# Altium schematic symbol library HC11_lib.SchLib: 34 symbols (part 1 of 2)
Pins are listed as number, name and electrical type; pins without a type are passive.

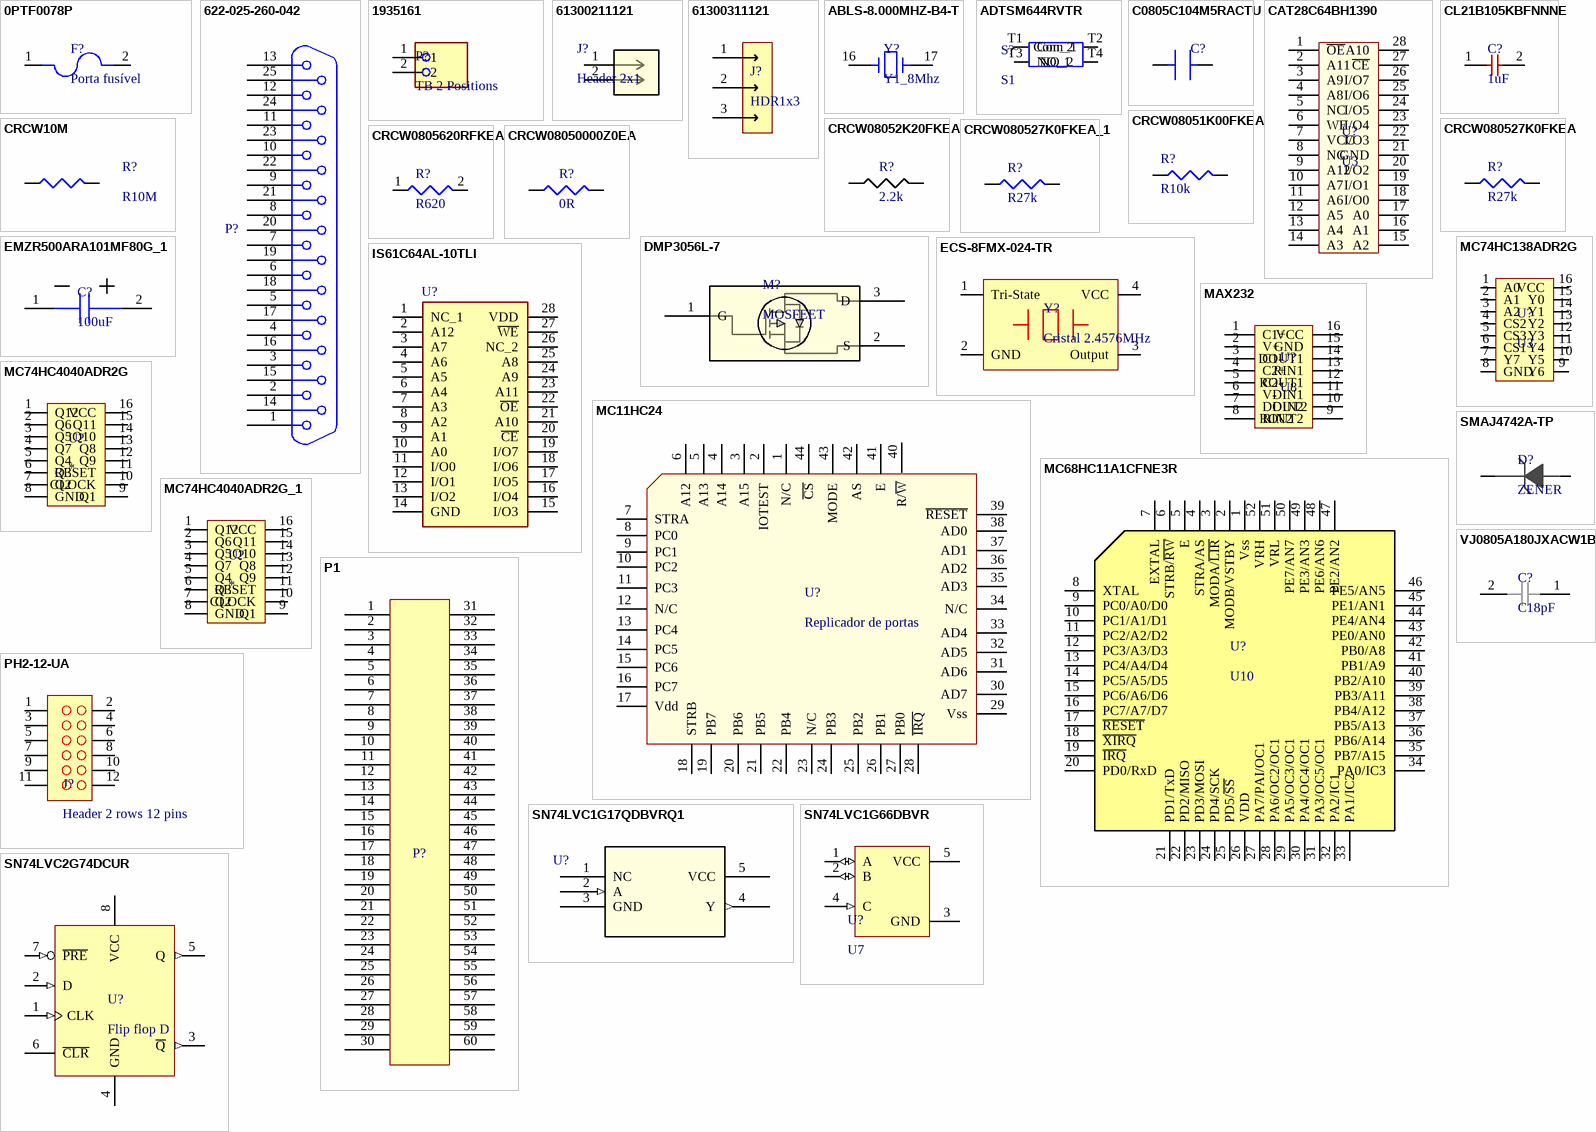
[diagram p0: symbols 0PTF0078P to VJ0805A180JXACW1BC]

## 0PTF0078P
designator F?, comment Porta fusível
Fuses/Accessories; Manufacturer: Littelfuse; Manufacturer Part Number: 0PTF0078P; Supplier: Arrow Electronics; Supplier Part Number: 0PTF0078P; RoHS: Yes; Category: Fuse Holders; Stock: 1750; Pricing: 1=0,4521, 10=0,4393, 25=0,3756, 100=0,3176, 250=0,2898, 500=0,247, 1000=0,2297, 2000=0,2037 (USD); ComponentLink1URL: https://datasheet.ciiva.com:443/pdfs/VipMasterIC/IC/LFSI/LFSI-S-A0006637341/LFSI-S-A0006637341-1.pdf?src-supplier=IHS+Markit; ComponentLink1Description: https://datasheet.ciiva.com:443/pdfs/VipMasterIC/IC/LFSI/LFSI-S-A0006637341/LFSI-S-A0006637341-1.pdf?src-supplier=IHS+Markit; ComponentLink2URL: https://datasheet.ciiva.com/18456/ptf075-77-78-18456970.pdf?src-supplier=Digikey; ComponentLink2Description: https://datasheet.ciiva.com/18456/ptf075-77-78-18456970.pdf?src-supplier=Digikey
footprint porta fusível
pins: 1, 2

## 622-025-260-042
designator P?, comment D-Sub 25  (value not drawn)
Connector, d-Shell, pcb Mount, plug, 25 Contacts, skt, 0.109 Pitch, pc Tail Terminal, #4-40; Manufacturer: EDAC; Manufacturer Part Number: 622-025-260-042; Current Rating: 5A; Gender: Male; Connector Type: D-Sub,Receptacle; Number of Positions: 25; Supplier 1: Digikey; RoHS: Yes; Category: D-Sub Connectors; Stock 1: 203; Pricing 1: 1=3,31, 10=3,003, 25=2,8448, 50=2,7786, 100=2,6462, 250=2,31544, 450=2,24927, 950=1,91849, 2400=1,78618 (USD); Mount: Through Hole,Panel; Color: Black; Contact Plating: Gold; Contact Material: Bronze; Housing Color: Black; Housing Material: Polyester; Min Operating Temperature: -55°C; Max Operating Temperature: 105°C; Package Quantity: 25; Number of Rows: 2; Termination: Solder; Packaging: Tray; Features: Shielded; Series: 622; Contact Type: Signal; Length: 53mm; Width: 18.3mm; Height: 12.6mm; Lead Free: Lead Free; Flammability Rating: UL94 V-0; RoHS Compliant: Yes; ComponentLink1URL: https://datasheet.ciiva.com/660/24-621-622seriesnew-660597.pdf?src-supplier=Digikey; ComponentLink1Description: https://datasheet.ciiva.com/660/24-621-622seriesnew-660597.pdf?src-supplier=Digikey; ComponentLink2URL: https://datasheet.ciiva.com/36531/24-621-62220series20new-36531692.pdf?src-supplier=Onlinecomponents.com; ComponentLink2Description: https://datasheet.ciiva.com/36531/24-621-62220series20new-36531692.pdf?src-supplier=Onlinecomponents.com; ComponentLink3URL: https://datasheet.ciiva.com/5118/24-621-622seriesnew-5118957.pdf?src-supplier=Mouser; ComponentLink3Description: https://datasheet.ciiva.com/5118/24-621-622seriesnew-5118957.pdf?src-supplier=Mouser; Supplier Part Number 1: 151-1469-ND
pins: 1, 2, 3, 4, 5, 6, 7, 8, 9, 10, 11, 12, 13, 14, 15, 16, 17, 18, 19, 20, 21, 22, 23, 24, 25

## 1935161
designator P?, comment TB 2 Positions
Supplier 1: Arrow Electronics; Supplier Part Number 1: 1935161
footprint P?
pins: 1, 2

## 61300211121
designator J?, comment Header 2x1
No Description Available; Mfr_Name: Wurth Electronics; RefDes: RefDes; Type: Type
footprint 2pin
pins: 1, 2

## 61300311121
designator J?, comment HDR1x3
THT Vertical Pin Header WR-PHD, Pitch 2.54 mm, Single Row, 3 pins; Manufacturer: Wurth Electronics; Manufacturer Part Number: 61300311121; Number of Positions: 3; Gender: Male; Contact Resistance: 20mR; Current Rating: 3A; Voltage Rating: 250V; Pitch: 0.1inch; Supplier 1: Digikey; RoHS: Yes; Category: Connectors; Stock 1: 144979; Pricing 1: 1=0,13, 10=0,113, 25=0,094, 50=0,079, 100=0,071, 1000=0,066 (USD); Mount: Through Hole; Contact Plating: Gold; Contact Material: Copper; Color: Black; Min Operating Temperature: -40°C; Max Operating Temperature: 105°C; Number of Rows: 1; Packaging: Bulk; Termination: Solder; Number of Contacts: 3; Series: WR-PHD; Contact Type: Male Pin; Operating Supply Voltage: 250V; Orientation: 5495OrientationType; Height: 8.94mm; Contact Mating Length: 0.236inch; Lead Free: Lead Free; RoHS Compliant: Yes; Reach SVHC Compliant: Unknown; ComponentLink1URL: https://katalog.we-online.de/em/datasheet/6130xx11121.pdf?src-supplier=Digikey; ComponentLink1Description: https://katalog.we-online.de/em/datasheet/6130xx11121.pdf?src-supplier=Digikey; ComponentLink2URL: http://www.farnell.com/cad/1737268.pdf?src-supplier=Element14; ComponentLink2Description: http://www.farnell.com/cad/1737268.pdf?src-supplier=Element14; ComponentLink3URL: https://datasheet.octopart.com/61300311121-W%C3%BCrth-Elektronik-datasheet-21154836.pdf?src-supplier=Element14; ComponentLink3Description: https://datasheet.octopart.com/61300311121-W%C3%BCrth-Elektronik-datasheet-21154836.pdf?src-supplier=Element14; Supplier Part Number 1: 732-5316-ND
footprint HDR1x3
pins: 1, 2, 3

## ABLS-8.000MHZ-B4-T
designator Y?, comment Y1_8Mhz
Crystal, Hc49/u Smd, 8.000Mhz, 18Pf, 30Ppm@25C, 50Ppm-20+70C Rohs Compliant: Yes; Manufacturer: Abracon; Manufacturer Part Number: ABLS-8.000MHZ-B4-T; Supplier: Digikey; Supplier Part Number: 535-10212-1-ND; RoHS: Yes; Category: Crystals; Stock: 30879; Pricing: 1=0,25, 10=0,211, 50=0,19, 100=0,1817, 500=0,16382 (USD); ComponentLink1URL: https://datasheet.ciiva.com/3175/abls-3175446.pdf?src-supplier=Avnet; ComponentLink1Description: https://datasheet.ciiva.com/3175/abls-3175446.pdf?src-supplier=Avnet; ComponentLink2URL: https://datasheet.ciiva.com/854/abls-854117.pdf?src-supplier=Digikey; ComponentLink2Description: https://datasheet.ciiva.com/854/abls-854117.pdf?src-supplier=Digikey; ComponentLink3URL: https://datasheet.ciiva.com/854/abls-854118.pdf?src-supplier=Digikey; ComponentLink3Description: https://datasheet.ciiva.com/854/abls-854118.pdf?src-supplier=Digikey; ComponentLink4URL: https://datasheet.ciiva.com/854/abls-854119.pdf?src-supplier=Digikey; ComponentLink4Description: https://datasheet.ciiva.com/854/abls-854119.pdf?src-supplier=Digikey; ComponentLink5URL: https://datasheet.ciiva.com/4944/abls-44621-4944748.pdf?src-supplier=Mouser; ComponentLink5Description: https://datasheet.ciiva.com/4944/abls-44621-4944748.pdf?src-supplier=Mouser
footprint Y1_Oscilador 8Mhz
pins: 16, 17

## ADTSM644RVTR
designator S?, comment S1
Switch Tactile Spst-no 0.05A 12V; Manufacturer: APEM; Manufacturer Part Number: ADTSM644RVTR; Supplier: Digikey; Supplier Part Number: 679-ADTSM644RVTRCT-ND; RoHS: Yes; Category: Tactile Switches; Stock: 3362; Pricing: 1=0,59, 10=0,573, 25=0,5516, 100=0,4772, 250=0,4348, 700=0,40299, 1400=0,36057, 3500=0,34148, 4900=0,31603, 17500=0,29482 (USD); ComponentLink1URL: https://datasheet.ciiva.com/12436/adts6-adtsm-ktsc6-263747-12436687.pdf?src-supplier=Mouser; ComponentLink1Description: https://datasheet.ciiva.com/12436/adts6-adtsm-ktsc6-263747-12436687.pdf?src-supplier=Mouser
footprint S1_ChaveDPDT
pins: T1 Com_1, T2 Com_2, T3 NO_1, T4 NO_2

## C0805C104M5RACTU
designator C?, comment 0.1uF  (value not drawn)
Multilayer Ceramic Capacitor, 0.1 uF, 50 V, ï¿½ 20%, X7R, 0805 [2012 Metric]; Manufacturer: KEMET; Manufacturer Part Number: C0805C104M5RACTU; Material: 4241ConductorMaterial; Capacitance: 100nF; Voltage Rating (DC): 50V; Dissipation Factor: 2.5%; Temperature Coefficient: 30ppm/°C; Supplier 1: Mouser; RoHS: Yes; Category: Ceramic Capacitors; Stock 1: 967469; Pricing 1: 1=0,1, 10=0,028, 50=0,028, 100=0,016, 1000=0,011, 10000=0,009 (USD); Mount: Surface Mount,PCB; Case/Package: 0805; Number of Pins: 2; Dielectric Material: Ceramic; Case Code (Imperial): 0805; Case Code (Metric): 2012; Weight: 0.000194oz; Min Operating Temperature: -55°C; Max Operating Temperature: 125°C; Tolerance: 20%; Packaging: Tape and Reel; Dielectric: X7R; Series: C; Termination: SMD/SMT; Package Quantity: 1; Voltage Rating: 50V; Voltage: 50V; Construction: Flat; Length: 2mm; Width: 0.049inch; Height: 0.9mm; Depth: 1.25mm; Thickness: 0.035inch; Radiation Hardening: No; Reach SVHC Compliant: No; RoHS Compliant: Yes; Lead Free: 5697LeadFree; ComponentLink1URL: http://www.mouser.com/ds/2/212/KEM_C1002_X7R_SMD-1102033.pdf?src-supplier=Mouser; ComponentLink1Description: http://www.mouser.com/ds/2/212/KEM_C1002_X7R_SMD-1102033.pdf?src-supplier=Mouser; ComponentLink2URL: http://uk.rs-online.com/webdocs/1515/0900766b81515223.pdf?src-supplier=Rs; ComponentLink2Description: http://uk.rs-online.com/webdocs/1515/0900766b81515223.pdf?src-supplier=Rs; ComponentLink3URL: http://uk.rs-online.com/webdocs/1528/0900766b81528e2f.pdf?src-supplier=Rs; ComponentLink3Description: http://uk.rs-online.com/webdocs/1528/0900766b81528e2f.pdf?src-supplier=Rs; ComponentLink4URL: http://www.farnell.com/datasheets/2739857.pdf?src-supplier=Farnell; ComponentLink4Description: http://www.farnell.com/datasheets/2739857.pdf?src-supplier=Farnell; ComponentLink5URL: http://uk.rs-online.com/webdocs/13da/0900766b813daa06.pdf?src-supplier=Rs; ComponentLink5Description: http://uk.rs-online.com/webdocs/13da/0900766b813daa06.pdf?src-supplier=Rs; ComponentLink6URL: https://api.kemet.com/component-edge/download/datasheet/C0805C104M5RACTU.pdf?src-supplier=Digikey; ComponentLink6Description: https://api.kemet.com/component-edge/download/datasheet/C0805C104M5RACTU.pdf?src-supplier=Digikey; ComponentLink7URL: http://datasheet.octopart.com/C0805C104M5RAC-TU-Kemet-datasheet-5313890.pdf?src-supplier=Distrelec; ComponentLink7Description: http://datasheet.octopart.com/C0805C104M5RAC-TU-Kemet-datasheet-5313890.pdf?src-supplier=Distrelec; ComponentLink8URL: http://datasheet.octopart.com/C0805C104M5RAC-TU-Kemet-datasheet-5313890.pdf?src-supplier=Rs; ComponentLink8Description: http://datasheet.octopart.com/C0805C104M5RAC-TU-Kemet-datasheet-5313890.pdf?src-supplier=Rs; ComponentLink9URL: https://datasheet.octopart.com/C0805C104M5RACTU-Kemet-datasheet-12608295.pdf?src-supplier=Element14; ComponentLink9Description: https://datasheet.octopart.com/C0805C104M5RACTU-Kemet-datasheet-12608295.pdf?src-supplier=Element14; ComponentLink10URL: http://www.farnell.com/datasheets/2739857.pdf?src-supplier=Element14; ComponentLink10Description: http://www.farnell.com/datasheets/2739857.pdf?src-supplier=Element14; ComponentLink11URL: http://datasheet.octopart.com/C0805C104M5RAC-TU-Kemet-datasheet-5313890.pdf?src-supplier=Avnet; ComponentLink11Description: http://datasheet.octopart.com/C0805C104M5RAC-TU-Kemet-datasheet-5313890.pdf?src-supplier=Avnet; ComponentLink12URL: http://datasheet.octopart.com/C0805C104M5RAC-TU-Kemet-datasheet-5313890.pdf?src-supplier=Digikey; ComponentLink12Description: http://datasheet.octopart.com/C0805C104M5RAC-TU-Kemet-datasheet-5313890.pdf?src-supplier=Digikey; ComponentLink13URL: https://datasheet.octopart.com/C0805C104M5RACTU-Kemet-datasheet-11629161.pdf?src-supplier=Arrow+Electronics; ComponentLink13Description: https://datasheet.octopart.com/C0805C104M5RACTU-Kemet-datasheet-11629161.pdf?src-supplier=Arrow+Electronics; Supplier Part Number 1: 80-C0805C104M5R
footprint C0.1uF
pins: 1, 2

## CAT28C64BH1390
designator U?, comment U3
EEPROM Parallel 64K-bit 8K x 8 5V 28-Pin TSOP; Manufacturer: ON Semiconductor; Manufacturer Part Number: CAT28C64BH1390; Max Supply Voltage: 5.5V; Min Supply Voltage: 4.5V; Access Time: 90ns; Memory Size: 64Kb; Memory Type: Non-Volatile,EEPROM; Supplier 1: Avnet; RoHS: Yes; Stock 1: 468; Pricing 1: 92=4,0404, 100=3,9312, 190=3,822, 460=3,7128, 920=3,6036, 4600=3,4944, 9200=3,3852 (USD); Mount: Surface Mount; Case/Package: TSOP; Number of Pins: 28; Min Operating Temperature: 0°C; Max Operating Temperature: 70°C; Packaging: Tray; Operating Supply Voltage: 5V; Interface: Parallel; Series: -; RoHS Compliant: Yes; ComponentLink1URL: https://datasheet.ciiva.com/1928/cat28c64b-d-1928348.pdf?src-supplier=Digikey; ComponentLink1Description: https://datasheet.ciiva.com/1928/cat28c64b-d-1928348.pdf?src-supplier=Digikey; Supplier Part Number 1: CAT28C64BH1390
pins: 1 ~{OE}, 2 A11, 3 A9, 4 A8, 5 NC, 6 WE, 7 VCC, 8 NC, 9 A12, 10 A7, 11 A6, 12 A5, 13 A4, 14 A3, 15 A2, 16 A1, 17 A0, 18 I/O0, 19 I/O1, 20 I/O2, 21 GND, 22 I/O3, 23 I/O4, 24 I/O5, 25 I/O6, 26 I/O7, 27 ~{CE}, 28 A10

## CL21B105KBFNNNE
designator C?, comment 1uF
CAP CER 1UF 50V X7R 0805; Supplier 1: Digikey; Supplier Part Number 1: 1276-1029-1-ND
footprint Cap_1uF
pins: 1, 2

## CRCW10M
designator R?, comment R10M
Supplier 1: Mouser; Supplier Part Number 1: 71-CRCW0805-10M-E3
footprint R?
pins: 9, 9

## CRCW08051K00FKEA
designator R?, comment R10k
Fixed Resistor, Metal Glaze/thick Film, 0.125W, 1000ohm, 150V, 1% +/-Tol, 100ppm/Cel, Surface Mount, 0805; Manufacturer: Vishay Dale; Manufacturer Part Number: CRCW08051K00FKEA; Power: 125mW; Rated Temperature: 70°C; Value: 1kR; Temperature Coefficient: 100ppm/°C; Package Height: 0.45mm; Package Length: 2mm; Package Width: 1.25mm; Reference Standard: AEC-Q200; Supplier: Mouser; Supplier Part Number: 71-CRCW0805-1.0K-E3; RoHS: Yes; Category: Resistors; Stock: 628657; Pricing: 1=0,1, 10=0,022, 50=0,022, 100=0,014, 1000=0,012, 10000=0,007 (USD); Mounting Technology: Surface Mount; Pins: 2; Package Shape: Rectangular; Case/Package: 0805; Terminal Finish: Nickel; Min Operating Temperature: -55°C; Max Operating Temperature: 155°C; Tolerance: 1%; JESD-609 Code: e3; Resistor Type: FIXED RESISTOR; Construction: Chip; Package Style: SMTMeter; Packaging: Tape and Reel; Technology: METAL GLAZE/THICK FILM; Termination: Wraparound; Working Voltage: 150V; Reach SVHC Compliant: Yes; RoHS Compliant: Yes; ComponentLink1URL: https://datasheet.ciiva.com:443/pdfs/VipMasterIC/IC/VISH/VISH-S-A0007266705/VISH-S-A0007266705-1.pdf?src-supplier=IHS+Markit; ComponentLink1Description: https://datasheet.ciiva.com:443/pdfs/VipMasterIC/IC/VISH/VISH-S-A0007266705/VISH-S-A0007266705-1.pdf?src-supplier=IHS+Markit
footprint CRCW080510K0FKEA - duplicate1
pins: 1, 2

## CRCW08052K20FKEA
designator R?, comment 2.2k
SMD Chip Resistor, 2.2 kOhm, ï¿½ 1%, 125 mW, 0805 [2012 Metric], Thick Film, General Purpose; Manufacturer: Vishay; Manufacturer Part Number: CRCW08052K20FKEA; Value: 2.2kR; Temperature Coefficient: 100ppm/°C; Max Power Dissipation: 125mW; Voltage Rating: 150V; Supplier: Digikey; Supplier Part Number: 541-2.20KCCT-ND; RoHS: Yes; Category: Chip SMD Resistors; Stock: 33922; Pricing: 1=0,1, 10=0,038, 50=0,0248, 100=0,021, 500=0,01462, 1000=0,01273 (USD); Case/Package: 0805; Weight: 0.000194oz; Case Code (Imperial): 0805; Case Code (Metric): 2012; Contact Plating: Tin; Min Operating Temperature: -55°C; Max Operating Temperature: 155°C; Tolerance: 1%; Number of Terminations: 2; Series: CRCW; Packaging: Tape and Reel; Resistor Type: Thick Film; Power Rating: 125mW; Package Quantity: 10; Termination: SMD/SMT; Voltage Rating (DC): 150V; Features: Automotive AEC-Q200; Technology: THICK FILM; Resistance Tolerance: 1%; Construction: Rectangular; Length: 2mm; Width: 0.049inch; Height: 0.45mm; Depth: 1.25mm; Radiation Hardening: No; Lead Free: Lead Free; RoHS Compliant: Yes; Reach SVHC Compliant: Unknown; Military Standard: Not; ComponentLink1URL: https://datasheet.ciiva.com/11808/0900766b80d98b26-11808384.pdf?src-supplier=Rs; ComponentLink1Description: https://datasheet.ciiva.com/11808/0900766b80d98b26-11808384.pdf?src-supplier=Rs; ComponentLink2URL: https://datasheet.ciiva.com/2525/dcrcwe3-2525869.pdf?src-supplier=Digikey; ComponentLink2Description: https://datasheet.ciiva.com/2525/dcrcwe3-2525869.pdf?src-supplier=Digikey; ComponentLink3URL: https://datasheet.ciiva.com/2525/dcrcwe3-2525870.pdf?src-supplier=Digikey; ComponentLink3Description: https://datasheet.ciiva.com/2525/dcrcwe3-2525870.pdf?src-supplier=Digikey; ComponentLink4URL: https://datasheet.ciiva.com/2525/dcrcwe3-2525871.pdf?src-supplier=Digikey; ComponentLink4Description: https://datasheet.ciiva.com/2525/dcrcwe3-2525871.pdf?src-supplier=Digikey; ComponentLink5URL: https://datasheet.ciiva.com/3258/dcrcwe3-3258430.pdf?src-supplier=Avnet; ComponentLink5Description: https://datasheet.ciiva.com/3258/dcrcwe3-3258430.pdf?src-supplier=Avnet; ComponentLink6URL: https://datasheet.ciiva.com/3258/dcrcwe3-3258431.pdf?src-supplier=Avnet; ComponentLink6Description: https://datasheet.ciiva.com/3258/dcrcwe3-3258431.pdf?src-supplier=Avnet; ComponentLink7URL: https://datasheet.ciiva.com/7777/1697337-7777385.pdf?src-supplier=Element14; ComponentLink7Description: https://datasheet.ciiva.com/7777/1697337-7777385.pdf?src-supplier=Element14; ComponentLink8URL: https://datasheet.ciiva.com/7777/1720486-7777611.pdf?src-supplier=Element14; ComponentLink8Description: https://datasheet.ciiva.com/7777/1720486-7777611.pdf?src-supplier=Element14; ComponentLink9URL: https://datasheet.ciiva.com/5546/dcrcwe3-109170-5546726.pdf?src-supplier=Mouser; ComponentLink9Description: https://datasheet.ciiva.com/5546/dcrcwe3-109170-5546726.pdf?src-supplier=Mouser; ComponentLink10URL: https://datasheet.ciiva.com/16770/70201119-16770763.pdf?src-supplier=Allied+Electronics; ComponentLink10Description: https://datasheet.ciiva.com/16770/70201119-16770763.pdf?src-supplier=Allied+Electronics; ComponentLink11URL: https://datasheet.ciiva.com/16201/dcrcwe3-16201450.pdf?src-supplier=Future+Electronics; ComponentLink11Description: https://datasheet.ciiva.com/16201/dcrcwe3-16201450.pdf?src-supplier=Future+Electronics; Supplier 1: Mouser; Supplier Part Number 1: 71-CRCW08052K20FKEAC
footprint R2.2k
pins: 1, 2

## CRCW080527K0FKEA
designator R?, comment R27k
Res Thick Film 0805 27K Ohm 1% 1/8W ±100ppm/°C Molded SMD SMD Paper T/R; Manufacturer: Vishay; Manufacturer Part Number: CRCW080527K0FKEA; Power Rating: 125mW; Resistance: 27kR; Voltage Rating: 150V; Supplier 1: Digikey; RoHS: Yes; Category: Resistores; Stock 1: 17664; Pricing 1: 1=0,1, 10=0,038, 50=0,0248, 100=0,021, 500=0,01462, 1000=0,01273 (USD); Case/Package: 0805; Number of Pins: 2; Weight: 0.000194oz; Case Code (Metric): 2012; Case Code (Imperial): 0805; Contact Plating: Tin; Size Code: 0805; Min Operating Temperature: -55°C; Max Operating Temperature: 155°C; Tolerance: 1%; Packaging: Tape and Reel; Package Quantity: 10; Resistor Type: Thick Film; Number of Terminations: 2; Termination: SMD/SMT; Temperature Coefficient: 100ppm/°C; Max Power Dissipation: 125mW; Voltage Rating (DC): 150V; Features: Automotive AEC-Q200; Series: CRCW; Resistance Tolerance: 1%; Construction: Rectangular; Technology: THICK FILM; Length: 2mm; Width: 0.049inch; Height: 0.45mm; Depth: 1.25mm; Ratings: AEC-Q200; Radiation Hardening: No; RoHS Compliant: Yes; Lead Free: Lead Free; Reach SVHC Compliant: Unknown; Military Standard: Not; ComponentLink1URL: https://datasheet.ciiva.com/11809/0900766b80d98b26-11809085.pdf?src-supplier=Rs; ComponentLink1Description: https://datasheet.ciiva.com/11809/0900766b80d98b26-11809085.pdf?src-supplier=Rs; ComponentLink2URL: https://datasheet.ciiva.com/2467/dcrcwe3-2467449.pdf?src-supplier=Digikey; ComponentLink2Description: https://datasheet.ciiva.com/2467/dcrcwe3-2467449.pdf?src-supplier=Digikey; ComponentLink3URL: https://datasheet.ciiva.com/2467/dcrcwe3-2467450.pdf?src-supplier=Digikey; ComponentLink3Description: https://datasheet.ciiva.com/2467/dcrcwe3-2467450.pdf?src-supplier=Digikey; ComponentLink4URL: https://datasheet.ciiva.com/2467/dcrcwe3-2467451.pdf?src-supplier=Digikey; ComponentLink4Description: https://datasheet.ciiva.com/2467/dcrcwe3-2467451.pdf?src-supplier=Digikey; ComponentLink5URL: https://datasheet.ciiva.com/3258/dcrcwe3-3258397.pdf?src-supplier=Avnet; ComponentLink5Description: https://datasheet.ciiva.com/3258/dcrcwe3-3258397.pdf?src-supplier=Avnet; ComponentLink6URL: https://datasheet.ciiva.com/7841/1697337-7841848.pdf?src-supplier=Element14; ComponentLink6Description: https://datasheet.ciiva.com/7841/1697337-7841848.pdf?src-supplier=Element14; ComponentLink7URL: https://datasheet.ciiva.com/26317/fld-crcw-e3-data-en-26317163.pdf?src-supplier=Distrelec; ComponentLink7Description: https://datasheet.ciiva.com/26317/fld-crcw-e3-data-en-26317163.pdf?src-supplier=Distrelec; ComponentLink8URL: https://datasheet.ciiva.com/5552/dcrcwe3-109170-5552399.pdf?src-supplier=Mouser; ComponentLink8Description: https://datasheet.ciiva.com/5552/dcrcwe3-109170-5552399.pdf?src-supplier=Mouser; ComponentLink9URL: https://datasheet.ciiva.com/16435/dcrcwe3-16435928.pdf?src-supplier=Future+Electronics; ComponentLink9Description: https://datasheet.ciiva.com/16435/dcrcwe3-16435928.pdf?src-supplier=Future+Electronics; ComponentLink10URL: https://datasheet.ciiva.com/16760/70201119-16760750.pdf?src-supplier=Allied+Electronics; ComponentLink10Description: https://datasheet.ciiva.com/16760/70201119-16760750.pdf?src-supplier=Allied+Electronics; ComponentLink11URL: https://datasheet.ciiva.com/22871/70201119-22871323.pdf?src-supplier=Allied+Electronics; ComponentLink11Description: https://datasheet.ciiva.com/22871/70201119-22871323.pdf?src-supplier=Allied+Electronics; Supplier Part Number 1: 541-27.0KCCT-ND
pins: 1, 2

## CRCW080527K0FKEA_1
designator R?, comment R27k
Res Thick Film 0805 27K Ohm 1% 1/8W ±100ppm/°C Molded SMD SMD Paper T/R; Manufacturer: Vishay; Manufacturer Part Number: CRCW080527K0FKEA; Power Rating: 125mW; Resistance: 27kR; Voltage Rating: 150V; Supplier 1: Digikey; RoHS: Yes; Category: Resistores; Stock 1: 17664; Pricing 1: 1=0,1, 10=0,038, 50=0,0248, 100=0,021, 500=0,01462, 1000=0,01273 (USD); Case/Package: 0805; Number of Pins: 2; Weight: 0.000194oz; Case Code (Metric): 2012; Case Code (Imperial): 0805; Contact Plating: Tin; Size Code: 0805; Min Operating Temperature: -55°C; Max Operating Temperature: 155°C; Tolerance: 1%; Packaging: Tape and Reel; Package Quantity: 10; Resistor Type: Thick Film; Number of Terminations: 2; Termination: SMD/SMT; Temperature Coefficient: 100ppm/°C; Max Power Dissipation: 125mW; Voltage Rating (DC): 150V; Features: Automotive AEC-Q200; Series: CRCW; Resistance Tolerance: 1%; Construction: Rectangular; Technology: THICK FILM; Length: 2mm; Width: 0.049inch; Height: 0.45mm; Depth: 1.25mm; Ratings: AEC-Q200; Radiation Hardening: No; RoHS Compliant: Yes; Lead Free: Lead Free; Reach SVHC Compliant: Unknown; Military Standard: Not; ComponentLink1URL: https://datasheet.ciiva.com/11809/0900766b80d98b26-11809085.pdf?src-supplier=Rs; ComponentLink1Description: https://datasheet.ciiva.com/11809/0900766b80d98b26-11809085.pdf?src-supplier=Rs; ComponentLink2URL: https://datasheet.ciiva.com/2467/dcrcwe3-2467449.pdf?src-supplier=Digikey; ComponentLink2Description: https://datasheet.ciiva.com/2467/dcrcwe3-2467449.pdf?src-supplier=Digikey; ComponentLink3URL: https://datasheet.ciiva.com/2467/dcrcwe3-2467450.pdf?src-supplier=Digikey; ComponentLink3Description: https://datasheet.ciiva.com/2467/dcrcwe3-2467450.pdf?src-supplier=Digikey; ComponentLink4URL: https://datasheet.ciiva.com/2467/dcrcwe3-2467451.pdf?src-supplier=Digikey; ComponentLink4Description: https://datasheet.ciiva.com/2467/dcrcwe3-2467451.pdf?src-supplier=Digikey; ComponentLink5URL: https://datasheet.ciiva.com/3258/dcrcwe3-3258397.pdf?src-supplier=Avnet; ComponentLink5Description: https://datasheet.ciiva.com/3258/dcrcwe3-3258397.pdf?src-supplier=Avnet; ComponentLink6URL: https://datasheet.ciiva.com/7841/1697337-7841848.pdf?src-supplier=Element14; ComponentLink6Description: https://datasheet.ciiva.com/7841/1697337-7841848.pdf?src-supplier=Element14; ComponentLink7URL: https://datasheet.ciiva.com/26317/fld-crcw-e3-data-en-26317163.pdf?src-supplier=Distrelec; ComponentLink7Description: https://datasheet.ciiva.com/26317/fld-crcw-e3-data-en-26317163.pdf?src-supplier=Distrelec; ComponentLink8URL: https://datasheet.ciiva.com/5552/dcrcwe3-109170-5552399.pdf?src-supplier=Mouser; ComponentLink8Description: https://datasheet.ciiva.com/5552/dcrcwe3-109170-5552399.pdf?src-supplier=Mouser; ComponentLink9URL: https://datasheet.ciiva.com/16435/dcrcwe3-16435928.pdf?src-supplier=Future+Electronics; ComponentLink9Description: https://datasheet.ciiva.com/16435/dcrcwe3-16435928.pdf?src-supplier=Future+Electronics; ComponentLink10URL: https://datasheet.ciiva.com/16760/70201119-16760750.pdf?src-supplier=Allied+Electronics; ComponentLink10Description: https://datasheet.ciiva.com/16760/70201119-16760750.pdf?src-supplier=Allied+Electronics; ComponentLink11URL: https://datasheet.ciiva.com/22871/70201119-22871323.pdf?src-supplier=Allied+Electronics; ComponentLink11Description: https://datasheet.ciiva.com/22871/70201119-22871323.pdf?src-supplier=Allied+Electronics; Supplier Part Number 1: 541-27.0KCCT-ND
pins: 1, 2

## CRCW0805620RFKEA
designator R?, comment R620
SMD Chip Resistor, 620 Ohm, ± 1%, 125 mW, 0805 [2012 Metric], Thick Film, General Purpose; Manufacturer: Vishay; Manufacturer Part Number: CRCW0805620RFKEA; Resistance: 620R; Temperature Coefficient: 100ppm/°C; Voltage Rating (DC): 150V; Max Power Dissipation: 125mW; Supplier 1: Digikey; RoHS: Yes; Category: Chip SMD Resistors; Stock 1: 9419; Pricing 1: 1=0,1, 10=0,038, 50=0,0248, 100=0,021, 500=0,01462, 1000=0,01273 (USD); Case/Package: 0805; Number of Pins: 2; Case Code (Imperial): 0805; Case Code (Metric): 2012; Contact Plating: Tin; Weight: 0.000194oz; Min Operating Temperature: -55°C; Max Operating Temperature: 155°C; Tolerance: 1%; Packaging: Tape and Reel; Package Quantity: 5000; Features: Automotive AEC-Q200; Series: CRCW; Number of Terminations: 2; Resistor Type: Thick Film; Power Rating: 125mW; Voltage Rating: 150V; Termination: SMD/SMT; Resistance Tolerance: 1%; Technology: THICK FILM; Length: 2mm; Width: 1.25mm; Height: 0.45mm; Depth: 1.25mm; Ratings: AEC-Q200; Radiation Hardening: No; Lead Free: Lead Free; RoHS Compliant: Yes; Reach SVHC Compliant: Unknown; ComponentLink1URL: https://datasheet.ciiva.com/11809/0900766b80d98b26-11809941.pdf?src-supplier=Rs; ComponentLink1Description: https://datasheet.ciiva.com/11809/0900766b80d98b26-11809941.pdf?src-supplier=Rs; ComponentLink2URL: https://datasheet.ciiva.com/8925/dcrcwe3-8925548.pdf?src-supplier=Avnet; ComponentLink2Description: https://datasheet.ciiva.com/8925/dcrcwe3-8925548.pdf?src-supplier=Avnet; ComponentLink3URL: https://datasheet.ciiva.com/7672/1697337-7672605.pdf?src-supplier=Element14; ComponentLink3Description: https://datasheet.ciiva.com/7672/1697337-7672605.pdf?src-supplier=Element14; ComponentLink4URL: https://datasheet.ciiva.com/7672/1697337-7672606.pdf?src-supplier=Element14; ComponentLink4Description: https://datasheet.ciiva.com/7672/1697337-7672606.pdf?src-supplier=Element14; ComponentLink5URL: https://datasheet.ciiva.com/7726/125364-7726039.pdf?src-supplier=Element14; ComponentLink5Description: https://datasheet.ciiva.com/7726/125364-7726039.pdf?src-supplier=Element14; ComponentLink6URL: https://datasheet.ciiva.com/22706/1697337-22706397.pdf?src-supplier=Element14; ComponentLink6Description: https://datasheet.ciiva.com/22706/1697337-22706397.pdf?src-supplier=Element14; ComponentLink7URL: https://datasheet.ciiva.com/26312/fld-crcw-e3-data-en-26312917.pdf?src-supplier=Distrelec; ComponentLink7Description: https://datasheet.ciiva.com/26312/fld-crcw-e3-data-en-26312917.pdf?src-supplier=Distrelec; ComponentLink8URL: https://datasheet.ciiva.com/5551/dcrcwe3-109170-5551338.pdf?src-supplier=Mouser; ComponentLink8Description: https://datasheet.ciiva.com/5551/dcrcwe3-109170-5551338.pdf?src-supplier=Mouser; ComponentLink9URL: https://datasheet.ciiva.com/16788/70201119-16788203.pdf?src-supplier=Allied+Electronics; ComponentLink9Description: https://datasheet.ciiva.com/16788/70201119-16788203.pdf?src-supplier=Allied+Electronics; Supplier Part Number 1: 541-620CCT-ND
footprint R0805 27k
pins: 1, 2

## CRCW08050000Z0EA
designator R?, comment 0R
Metal Glaze/thick Film, 0.125W, 0ohm, Surface Mount, 0805; Manufacturer: Vishay; Manufacturer Part Number: CRCW08050000Z0EA; Rated Temperature: 70°C; Power: 125mW; Package Height: 0.45mm; Package Length: 2mm; Package Width: 1.25mm; Reference Standard: AEC-Q200; Supplier: Digikey; Supplier Part Number: 541-0.0ACT-ND; RoHS: Yes; Category: Chip SMD Resistors; Stock: 347115; Pricing: 1=0,1, 10=0,043, 25=0,0324, 50=0,0248, 100=0,0173, 250=0,01392, 500=0,01112, 1000=0,00819 (USD); Mounting Technology: Surface Mount; Pins: 2; Package Shape: Rectangular; Case/Package: 0805; Terminal Finish: Nickel; Min Operating Temperature: -55°C; Max Operating Temperature: 155°C; JESD-609 Code: e3; Resistor Type: FIXED RESISTOR; Construction: Chip; Package Style: SMTMeter; Packaging: Tape and Reel; Value: 0R; Technology: METAL GLAZE/THICK FILM; Termination: Wraparound; Reach SVHC Compliant: Yes; RoHS Compliant: Yes; ComponentLink1URL: https://datasheet.ciiva.com:443/pdfs/VipMasterIC/IC/VISH/VISH-S-A0007266705/VISH-S-A0007266705-1.pdf?src-supplier=IHS+Markit; ComponentLink1Description: https://datasheet.ciiva.com:443/pdfs/VipMasterIC/IC/VISH/VISH-S-A0007266705/VISH-S-A0007266705-1.pdf?src-supplier=IHS+Markit; ComponentLink2URL: https://datasheet.ciiva.com/11811/0900766b80d98b26-11811304.pdf?src-supplier=Rs; ComponentLink2Description: https://datasheet.ciiva.com/11811/0900766b80d98b26-11811304.pdf?src-supplier=Rs; ComponentLink3URL: https://datasheet.ciiva.com/7841/1697337-7841629.pdf?src-supplier=Element14; ComponentLink3Description: https://datasheet.ciiva.com/7841/1697337-7841629.pdf?src-supplier=Element14; ComponentLink4URL: https://datasheet.ciiva.com/7841/1720486-7841839.pdf?src-supplier=Element14; ComponentLink4Description: https://datasheet.ciiva.com/7841/1720486-7841839.pdf?src-supplier=Element14; ComponentLink5URL: https://datasheet.ciiva.com/26314/fld-crcw-e3-data-en-26314630.pdf?src-supplier=Distrelec; ComponentLink5Description: https://datasheet.ciiva.com/26314/fld-crcw-e3-data-en-26314630.pdf?src-supplier=Distrelec; ComponentLink6URL: https://datasheet.ciiva.com/2463/dcrcwe3-2463037.pdf?src-supplier=Digikey; ComponentLink6Description: https://datasheet.ciiva.com/2463/dcrcwe3-2463037.pdf?src-supplier=Digikey; ComponentLink7URL: https://datasheet.ciiva.com/2463/dcrcwe3-2463038.pdf?src-supplier=Digikey; ComponentLink7Description: https://datasheet.ciiva.com/2463/dcrcwe3-2463038.pdf?src-supplier=Digikey; ComponentLink8URL: https://datasheet.ciiva.com/2463/dcrcwe3-2463039.pdf?src-supplier=Digikey; ComponentLink8Description: https://datasheet.ciiva.com/2463/dcrcwe3-2463039.pdf?src-supplier=Digikey; ComponentLink9URL: https://datasheet.ciiva.com/5543/dcrcwe3-109170-5543096.pdf?src-supplier=Mouser; ComponentLink9Description: https://datasheet.ciiva.com/5543/dcrcwe3-109170-5543096.pdf?src-supplier=Mouser; ComponentLink10URL: https://datasheet.ciiva.com/16389/dcrcwe3-16389338.pdf?src-supplier=Future+Electronics; ComponentLink10Description: https://datasheet.ciiva.com/16389/dcrcwe3-16389338.pdf?src-supplier=Future+Electronics; ComponentLink11URL: https://datasheet.ciiva.com/16719/70201119-16719706.pdf?src-supplier=Allied+Electronics; ComponentLink11Description: https://datasheet.ciiva.com/16719/70201119-16719706.pdf?src-supplier=Allied+Electronics; Supplier 1: Mouser; Supplier Part Number 1: 71-CRCW0805-0-E3
footprint R4_0Ohm
pins: 1, 2

## DMP3056L-7
designator M?, comment MOSFEET
DMP3056L Series 30 V 4.3 A P-Channel Enhancement Mode Mosfet - SOT-23-3; Manufacturer: Diodes; Manufacturer Part Number: DMP3056L-7; Drain to Source Voltage (Vdss): 30V; Continuous Drain Current (ID): 4.3A; Rds On Max: 50mR; Input Capacitance: 642pF; Max Power Dissipation: 1.38W; Number of Channels: 1; Turn-Off Delay Time: 35.2ns; Turn-On Delay Time: 4.9ns; Supplier 1: Future Electronics; RoHS: Yes; Category: MOSFETs; Stock 1: 63000; Pricing 1: 3000=0,093, 6000=0,0905, 9000=0,0891, 12000=0,0881, 15000=0,085 (USD); Mount: Surface Mount; Case/Package: SOT-23; Min Operating Temperature: -55°C; Max Operating Temperature: 150°C; Packaging: Cut Tape; Series: -; Power Dissipation: 1.38W; Height: 1.1mm; RoHS Compliant: Yes; ComponentLink1URL: http://www.farnell.com/datasheets/2814426.pdf?src-supplier=Farnell; ComponentLink1Description: http://www.farnell.com/datasheets/2814426.pdf?src-supplier=Farnell; ComponentLink2URL: http://www.mouser.com/ds/2/115/DMP3056L-526286.pdf?src-supplier=Mouser; ComponentLink2Description: http://www.mouser.com/ds/2/115/DMP3056L-526286.pdf?src-supplier=Mouser; ComponentLink3URL: https://www.diodes.com/assets/Datasheets/DMP3056L.pdf?src-supplier=Digikey; ComponentLink3Description: https://www.diodes.com/assets/Datasheets/DMP3056L.pdf?src-supplier=Digikey; ComponentLink4URL: http://www.farnell.com/datasheets/2814426.pdf?src-supplier=Newark; ComponentLink4Description: http://www.farnell.com/datasheets/2814426.pdf?src-supplier=Newark; Supplier Part Number 1: 2087588
footprint MOSFET
pins: 1 G, 2 S, 3 D

## ECS-8FMX-024-TR
designator Y?, comment Cristal 2.4576MHz
Oscillator Xo 2.4576MHZ ±200PPM 50PF Cmos/ttl 60% 5V 4-PIN SMD T/r; Manufacturer: ECS International; Manufacturer Part Number: ECS-8FMX-024-TR; Max Supply Voltage: 5.5V; Min Supply Voltage: 4.5V; Max Supply Current: 23mA; RoHS: Yes; Category: Oscillators; Stock 1: 7495; Pricing 1: 1=4,04, 10=3,838, 50=3,636, 100=3,333, 500=3,1815 (USD); Mount: Surface Mount; Min Operating Temperature: -40°C; Max Operating Temperature: 85°C; Frequency: 2.4576MHz; Packaging: Tape and Reel; Load Capacitance: 50pF; Operating Supply Voltage: 5V; Frequency Stability: 200ppm; Termination: SMD/SMT; Series: ECS-8FX; Lead Pitch: 3.81mm; Lead Free: Lead Free; RoHS Compliant: Yes; ComponentLink1Description: Datasheet; ComponentLink1URL: https://ecsxtal.com/store/pdf/ecs-8fx.pdf
footprint Y2_ECS8FMX024TR
pins: 1 Tri-State, 2 GND, 3 Output, 4 VCC

## EMZR500ARA101MF80G_1
designator C?, comment 100uF
Cap Aluminum Lytic 100uF 50V 20% (6.3 X 7.7mm) SMD 0.34 Ohm 350mA 2000h 105°C Automotive T/R; Manufacturer: United Chemi-Con; Manufacturer Part Number: EMZR500ARA101MF80G; Dielectric Material: Aluminium; ESR (Equivalent Series Resistance): 340mR; Dissipation Factor: 10%; Lead/Base Style: Straight; Test Frequency: 100MHz; Supplier 1: Digikey; RoHS: Yes; Category: Capacitors; Stock 1: 25529; Pricing 1: 1=0,52, 10=0,313, 50=0,2288, 100=0,2026 (USD); Mount: Surface Mount; Case/Package: Radial; Number of Pins: 2; Contact Plating: Tin; Min Operating Temperature: -55°C; Max Operating Temperature: 105°C; Packaging: Cut Tape; Capacitance: 100uF; Tolerance: 20%; Voltage Rating: 50V; Series: Alchip™- MZR; Ripple Current: 350mA; Termination: SMD/SMT; Voltage: 50V; Diameter: 6.3mm; Length: 7.7mm; Height: 7.7mm; Ratings: AEC-Q200; Radiation Hardening: No; RoHS Compliant: Yes; Lead Free: Lead Free; Reach SVHC Compliant: No; ComponentLink1URL: http://www.chemi-con.co.jp/cgi-bin/CAT_DB/SEARCH/cat_db_al.cgi?e=e&amp;j=p&amp;pdfname=mzr&src-supplier=Digikey; ComponentLink1Description: http://www.chemi-con.co.jp/cgi-bin/CAT_DB/SEARCH/cat_db_al.cgi?e=e&amp;j=p&amp;pdfname=mzr&src-supplier=Digikey; ComponentLink2URL: https://datasheet.octopart.com/EMZR500ARA101MF80G-United-Chemi-Con-datasheet-154730650.pdf?src-supplier=Electro+Sonic; ComponentLink2Description: https://datasheet.octopart.com/EMZR500ARA101MF80G-United-Chemi-Con-datasheet-154730650.pdf?src-supplier=Electro+Sonic; Supplier Part Number 1: 565-EMZR500ARA101MF80GCT-ND
pins: 1 23, 2 24

## IS61C64AL-10TLI
designator U?  (value not drawn)
SRAM 64K 8Kx8 10ns 5V Async SRAM; Manufacturer_Name: Integrated Silicon Solution Inc.; Geometry.Height: 1.2mm; Mouser Part Number: 870-IS61C64AL-10TLI; Mouser Price/Stock: https://www.mouser.co.uk/ProductDetail/ISSI/IS61C64AL-10TLI?qs=AG1tZYOK7s4pOKdFEmZW5A%3D%3D; Manufacturer_Part_Number: IS61C64AL-10TLI; Datasheet Link: https://www.arrow.com/en/products/is61c64al-10tli/integrated-silicon-solution-inc; Supplier 1: Digikey; Supplier Part Number 1: IS61C64AL-10TLI-ND
footprint SOP55P1340X120-28N
pins: 1 NC_1, 2 A12, 3 A7, 4 A6, 5 A5, 6 A4, 7 A3, 8 A2, 9 A1, 10 A0, 11 I/O0, 12 I/O1, 13 I/O2, 14 GND, 15 I/O3, 16 I/O4, 17 I/O5, 18 I/O6, 19 I/O7, 20 ~{CE}, 21 A10, 22 ~{OE}, 23 A11, 24 A9, 25 A8, 26 NC_2, 27 ~{WE}, 28 VDD

## MAX232
designator U?, comment U8
Supplier 1: Mouser; Supplier Part Number 1: 700-MAX3232CSET
footprint MAX3232
pins: 1 C1+, 2 V+, 3 C1-, 4 C2+, 5 C2-, 6 V-, 7 DOUT2, 8 RIN2, 9 ROUT2, 10 DIN2, 11 DIN1, 12 ROUT1, 13 RIN1, 14 DOUT1, 15 GND, 16 VCC

## MC11HC24
designator U?, comment Replicador de portas
footprint LCC44
pins: 1 N/C, 2 IOTEST, 3 A15, 4 A14, 5 A13, 6 A12, 7 STRA, 8 PC0, 9 PC1, 10 PC2, 11 PC3, 12 N/C, 13 PC4, 14 PC5, 15 PC6, 16 PC7, 17 Vdd, 18 STRB, 19 PB7, 20 PB6, 21 PB5, 22 PB4, 23 N/C, 24 PB3, 25 PB2, 26 PB1, 27 PB0, 28 ~{IRQ}, 29 Vss, 30 AD7, 31 AD6, 32 AD5, 33 AD4, 34 N/C, 35 AD3, 36 AD2, 37 AD1, 38 AD0, 39 ~{RESET}, 40 R/~{W}, 41 E, 42 AS, 43 MODE, 44 ~{CS}

## MC68HC11A1CFNE3R
designator U?, comment U10
Manufacturer: NXP USA; Manufacturer Part Number: MC68HC11A1CFNE3R; Interface: SPI,SCI; Peripherals: POR,WDT; Memory Type: ROMless; Number of I/Os: 38; Oscillator Type: External; Supplier 1: Digikey; RoHS: No; Mount: Surface Mount; Case/Package: LCC; Min Operating Temperature: -40°C; Max Operating Temperature: 85°C; Series: HC11; Packaging: Tape and Reel; ComponentLink1URL: https://media.digikey.com/pdf/Data%20Sheets/Freescale%20Semi/MC68HC11A.pdf?src-supplier=Digikey; ComponentLink1Description: https://media.digikey.com/pdf/Data%20Sheets/Freescale%20Semi/MC68HC11A.pdf?src-supplier=Digikey; Supplier Part Number 1: MC68HC11A1CFNE3R-ND
footprint MC68HC11A1
pins: 1 Vss, 2 MODB/VSTBY, 3 MODA/~{LIR}, 4 STRA/AS, 5 E, 6 STRB/~{RW} (oc), 7 EXTAL, 8 XTAL, 9 PC0/A0/D0, 10 PC1/A1/D1, 11 PC2/A2/D2, 12 PC3/A3/D3, 13 PC4/A4/D4, 14 PC5/A5/D5, 15 PC6/A6/D6, 16 PC7/A7/D7, 17 ~{RESET}, 18 ~{XIRQ}, 19 ~{IRQ}, 20 PD0/RxD, 21 PD1/TxD, 22 PD2/MISO, 23 PD3/MOSI, 24 PD4/SCK, 25 PD5/~{SS} , 26 VDD, 27 PA7/PAI/OC1, 28 PA6/OC2/OC1, 29 PA5/OC3/OC1, 30 PA4/OC4/OC1, 31 PA3/OC5/OC1, 32 PA2/IC1, 33 PA1/IC2, 34 PA0/IC3, 35 PB7/A15, 36 PB6/A14, 37 PB5/A13, 38 PB4/A12, 39 PB3/A11, 40 PB2/A10, 41 PB1/A9, 42 PB0/A8, 43 PE0/AN0, 44 PE4/AN4, 45 PE1/AN1, 46 PE5/AN5, 47 PE2/AN2, 48 PE6/AN6, 49 PE3/AN3, 50 PE7/AN7, 51 VRL, 52 VRH

## MC74HC138ADR2G
designator U?, comment U3
Decoder/Driver, HC/UH Series, Inverted Output, CMOS, PDSO16; Manufacturer: ON Semiconductor; Manufacturer Part Number: MC74HC138ADR2G; Package Body Material: Plastic; Input Conditioning: STANDARD; Load Capacitance (CL): 50pF; Logic Type: OTHER DECODER/DRIVER; Max I(ol): 4mA; Channels: 1; Package Equivalence Code: SOP16,.25; Power Supplies: 2/6V; Prop. Delay@Nom-Sup: 41ns; Propagation Delay (tpd): 205ns; Max Supply Voltage: 6V; Min Supply Voltage: 2V; Nominal Supply Voltage: 5V; Time @ Peak Reflow Temperature-Max (s): 40s; Qualification Status: Not Qualified; Supplier: Future Electronics; Supplier Part Number: 5143779; RoHS: Yes; Category: Decoders and Multiplexers; Stock: 10000; Pricing: 2500=0,147, 5000=0,144, 10000=0,142, 12500=0,141, 37500=0,135 (USD); Case/Package: SOP; Pins: 16; Package Shape: Rectangular; Terminal Finish: Tin; Min Operating Temperature: -55°C; Max Operating Temperature: 125°C; JESD-609 Code: e3; Output Polarity: INVERTED; JESD-30 Code: R-PDSO-G16; Moisture Sensitivity Level: 1; Package Style: SMALL OUTLINEMeter; Packaging: Tape and Reel; Peak Reflow Temperature (Cel): 260°C; Surface Mount: Yes; Technology: CMOS; Terminal Form: Gull Wing; Terminal Position: DUAL; Length: 9.9mm; Width: 3.9mm; Height - Seated (Max): 1.75mm; Terminal Pitch: 1.27mm; Temperature Grade: MILITARY; Reach SVHC Compliant: Yes; RoHS Compliant: Yes; ComponentLink1URL: https://datasheet.ciiva.com:443/pdfs/VipMasterIC/IC/ONSM/ONSMS24750/ONSMS24750-1.pdf?src-supplier=IHS+Markit; ComponentLink1Description: https://datasheet.ciiva.com:443/pdfs/VipMasterIC/IC/ONSM/ONSMS24750/ONSMS24750-1.pdf?src-supplier=IHS+Markit; ComponentLink2URL: https://datasheet.ciiva.com/1888/mc74hc138a-d-1888595.pdf?src-supplier=Digikey; ComponentLink2Description: https://datasheet.ciiva.com/1888/mc74hc138a-d-1888595.pdf?src-supplier=Digikey; ComponentLink3URL: https://datasheet.ciiva.com/1888/mc74hc138a-d-1888596.pdf?src-supplier=Digikey; ComponentLink3Description: https://datasheet.ciiva.com/1888/mc74hc138a-d-1888596.pdf?src-supplier=Digikey; ComponentLink4URL: https://datasheet.ciiva.com/1888/mc74hc138a-d-1888597.pdf?src-supplier=Digikey; ComponentLink4Description: https://datasheet.ciiva.com/1888/mc74hc138a-d-1888597.pdf?src-supplier=Digikey; ComponentLink5URL: https://datasheet.ciiva.com/8251/mc74hc138a-d-8251707.pdf?src-supplier=Avnet; ComponentLink5Description: https://datasheet.ciiva.com/8251/mc74hc138a-d-8251707.pdf?src-supplier=Avnet
pins: 1 A0, 2 A1, 3 A2, 4 CS2, 5 CS3, 6 CS1, 7 Y7, 8 GND, 9 Y6, 10 Y5, 11 Y4, 12 Y3, 13 Y2, 14 Y1, 15 Y0, 16 VCC

## MC74HC4040ADR2G
designator U?
IC BINARY COUNTER 12-BIT 16SOIC; Supplier 1: Digikey; Supplier Part Number 1: MC74HC4040ADR2GOSCT-ND
footprint MC74HC4040
pins: 1 Q12, 2 Q6, 3 Q5, 4 Q7, 5 Q4, 6 Q3, 7 Q2, 8 GND, 9 Q1, 10 CLOCK, 11 RESET, 12 Q9, 13 Q8, 14 Q10, 15 Q11, 16 VCC

## MC74HC4040ADR2G_1
designator U?
IC BINARY COUNTER 12-BIT 16SOIC; Supplier 1: Digikey; Supplier Part Number 1: MC74HC4040ADR2GOSCT-ND
footprint MC74HC4040
pins: 1 Q12, 2 Q6, 3 Q5, 4 Q7, 5 Q4, 6 Q3, 7 Q2, 8 GND, 9 Q1, 10 CLOCK, 11 RESET, 12 Q9, 13 Q8, 14 Q10, 15 Q11, 16 VCC

## P1
designator P?
pins: 1, 2, 3, 4  , 5  , 6  , 7  , 8  , 9  , 10  , 11  , 12  , 13  , 14  , 15  , 16  , 17  , 18  , 19  , 20  , 21  , 22  , 23  , 24  , 25  , 26  , 27  , 28  , 29  , 30  , 31, 32, 33, 34, 35, 36, 37, 38, 39, 40, 41, 42, 43, 44, 45, 46, 47, 48, 49, 50, 51, 52, 53, 54, 55, 56, 57, 58, 59, 60

## PH2-12-UA
designator J?, comment Header 2 rows 12 pins
Conn Unshrouded Header HDR 12 POS 2.54mm Solder ST Top Entry Thru-Hole Bag; Manufacturer: Adam Tech; Manufacturer Part Number: PH2-12-UA; Supplier 1: Digikey; RoHS: Yes; Category: Headers and Wire Housings; Stock 1: 11935; Pricing 1: 1=0,22, 10=0,168, 100=0,1284, 500=0,10686, 1000=0,09892, 5000=0,08318, 10000=0,07743 (USD); RoHS Compliant: Yes; ComponentLink1URL: https://datasheet.octopart.com/PH2-12-UA-Adam-Tech-datasheet-12510360.pdf?src-supplier=Future+Electronics; ComponentLink1Description: https://datasheet.octopart.com/PH2-12-UA-Adam-Tech-datasheet-12510360.pdf?src-supplier=Future+Electronics; Supplier Part Number 1: 2057-PH2-12-UA-ND
footprint Header_2rows_12pins
pins: 1 *, 2, 3, 4, 5, 6, 7, 8, 9, 10, 11, 12

## SMAJ4742A-TP
designator D?, comment ZENER
Zener Diode, 12V V(Z), 5%, 1W, Silicon, Unidirectional, DO-214AC; Manufacturer: MCC; Manufacturer Part Number: SMAJ4742A-TP; Package Body Material: Plastic; Dynamic Impedance-Max: 9R; Number of Elements: 1; Time @ Peak Reflow Temperature-Max (s): 10s; Test Current: 21mA; Qualification Status: Not Qualified; Supplier: Digikey; Supplier Part Number: SMAJ4742A-TPCT-ND; RoHS: Yes; Category: Zener Diodes; Stock: 3081; Pricing: 1=0,41, 10=0,289, 100=0,1458, 500=0,11898, 1000=0,08827, 2000=0,07427 (USD); Pins: 2; Diode Element Material: SILICON; Package Shape: Rectangular; Terminal Finish: Tin; Max Operating Temperature: 200°C; JESD-609 Code: e3; Polarity: Unidirectional; Diode Type: ZENER; JESD-30 Code: R-PDSO-C2; Moisture Sensitivity Level: 1; Package Style: SMALL OUTLINEMeter; Peak Reflow Temperature (Cel): 260°C; Max Power Dissipation: 1W; Reference Voltage-Nom: 12V; Surface Mount: Yes; Technology: ZENER; Terminal Form: C BEND; Terminal Position: DUAL; Voltage Tol-Max: 5%; JEDEC-95 Code: DO-214AC; Reach SVHC Compliant: No; RoHS Compliant: Yes; ComponentLink1URL: https://datasheet.ciiva.com:443/pdfs/VipMasterIC/IC/MCCC/MCCC-S-A0009698982/MCCC-S-A0009698982-1.pdf?src-supplier=IHS+Markit; ComponentLink1Description: https://datasheet.ciiva.com:443/pdfs/VipMasterIC/IC/MCCC/MCCC-S-A0009698982/MCCC-S-A0009698982-1.pdf?src-supplier=IHS+Markit; ComponentLink2URL: https://datasheet.ciiva.com/893/smaj4728a-smaj4761ado-214ac-893467.pdf?src-supplier=Digikey; ComponentLink2Description: https://datasheet.ciiva.com/893/smaj4728a-smaj4761ado-214ac-893467.pdf?src-supplier=Digikey; ComponentLink3URL: https://datasheet.ciiva.com/893/smaj4728a-smaj4761ado-214ac-893468.pdf?src-supplier=Digikey; ComponentLink3Description: https://datasheet.ciiva.com/893/smaj4728a-smaj4761ado-214ac-893468.pdf?src-supplier=Digikey; ComponentLink4URL: https://datasheet.ciiva.com/893/smaj4728a-smaj4761ado-214ac-893469.pdf?src-supplier=Digikey; ComponentLink4Description: https://datasheet.ciiva.com/893/smaj4728a-smaj4761ado-214ac-893469.pdf?src-supplier=Digikey; ComponentLink5URL: https://datasheet.ciiva.com/7968/1684844-7968286.pdf?src-supplier=Element14; ComponentLink5Description: https://datasheet.ciiva.com/7968/1684844-7968286.pdf?src-supplier=Element14; Supplier 1: Digikey; Supplier Part Number 1: SMAJ4742A-TPCT-ND
footprint Diode Zener
pins: A 2, K 1

## SN74LVC1G17QDBVRQ1
designator U?, comment Schimmit Trigger  (value not drawn)
No Description Available; Mfr_Name: Texas Instruments; RefDes: RefDes; Type: Type
footprint DBV5-M
pins: 1 NC, 2 A (in), 3 GND (power), 4 Y (out), 5 VCC (power)

## SN74LVC1G66DBVR
designator U?, comment U7
5-V, 1:1 (SPST), 1-channel analog switch 5-SOT-23 -40 to 85; MP: SN74LVC1G66DBVR; MF: Texas Instruments; Purchase-URL: https://pricing.snapeda.com/search/part/SN74LVC1G66DBVR/?ref=eda; Check_prices: https://www.snapeda.com/parts/SN74LVC1G66DBVR/Texas%20Instruments/view-part/225436/?ref=eda; Value: *; SnapEDA_Link: https://www.snapeda.com/parts/SN74LVC1G66DBVR/Texas%20Instruments/view-part/225436/?ref=snap; Availability: In Stock; Price: None; Package: SOT-23-5 Texas Instruments
footprint SOT95P280X145-5N
pins: 1 A (io), 2 B (io), 3 GND (power), 4 C (in), 5 VCC (power)

## SN74LVC2G74DCUR
designator U?, comment Flip flop D
D Flip-Flop, LVC/LCX/Z Series, 1-Func, Positive Edge Triggered, 1-Bit, Complementary Output, CMOS, PDSO8; Manufacturer: Texas Instruments; Manufacturer Part Number: SN74LVC2G74DCUR; Package Body Material: Plastic; fmax-Min: 200MHz; Max Frequency@Nom-Sup: 175MHz; Max I(ol): 24mA; Number of Bits: 1; Power Supplies: 3.3V; Prop. Delay@Nom-Sup: 5.9ns; Propagation Delay (tpd): 14.4ns; Max Supply Voltage: 5.5V; Min Supply Voltage: 1.65V; Nominal Supply Voltage: 1.8V; Output Characteristics: 3-STATE; Qualification Status: Not Qualified; Supplier: Mouser; Supplier Part Number: 595-SN74LVC2G74DCUR; RoHS: Yes; Category: Latches and Flip Flops; Stock: 29837; Pricing: 1=0,52, 10=0,382, 50=0,382, 100=0,214, 1000=0,16, 10000=0,128 (USD); Case/Package: VSSOP; Pins: 8; Package Shape: Rectangular; Terminal Finish: Nickel; Min Operating Temperature: -40°C; Max Operating Temperature: 125°C; JESD-609 Code: e4; Output Polarity: Complementary; Clock Edge Trigger Type: Positive Edge; JESD-30 Code: R-PDSO-G8; Logic Type: D FLIP-FLOP; Moisture Sensitivity Level: 1; Channels: 1; Package Style: SMALL OUTLINE, VERY THIN PROFILE, SHRINK PITCHMeter; Packaging: Tape and Reel; Peak Reflow Temperature (Cel): 260°C; Surface Mount: Yes; Technology: CMOS; Terminal Form: Gull Wing; Terminal Position: DUAL; Length: 2.3mm; Width: 2mm; Height - Seated (Max): 0.9mm; Terminal Pitch: 0.5mm; Temperature Grade: AUTOMOTIVE; Reach SVHC Compliant: Yes; RoHS Compliant: Yes; ComponentLink1URL: https://www.ti.com:443/lit/ds/symlink/sn74lvc2g74.pdf?src-supplier=IHS+Markit; ComponentLink1Description: https://www.ti.com:443/lit/ds/symlink/sn74lvc2g74.pdf?src-supplier=IHS+Markit; ComponentLink2URL: https://datasheet.ciiva.com/34301/757249-34301483.pdf?src-supplier=Jameco; ComponentLink2Description: https://datasheet.ciiva.com/34301/757249-34301483.pdf?src-supplier=Jameco; ComponentLink3URL: https://datasheet.ciiva.com/15091/getdatasheetpartid-189863-15091571.pdf?src-supplier=Verical; ComponentLink3Description: https://datasheet.ciiva.com/15091/getdatasheetpartid-189863-15091571.pdf?src-supplier=Verical; ComponentLink4URL: https://datasheet.ciiva.com/14292/sn74lvc2g74-14292478.pdf?src-supplier=Avnet; ComponentLink4Description: https://datasheet.ciiva.com/14292/sn74lvc2g74-14292478.pdf?src-supplier=Avnet; ComponentLink5URL: https://datasheet.ciiva.com/1855/sn74lvc2g74-1855060.pdf?src-supplier=Digikey; ComponentLink5Description: https://datasheet.ciiva.com/1855/sn74lvc2g74-1855060.pdf?src-supplier=Digikey; ComponentLink6URL: https://datasheet.ciiva.com/1855/sn74lvc2g74-1855061.pdf?src-supplier=Digikey; ComponentLink6Description: https://datasheet.ciiva.com/1855/sn74lvc2g74-1855061.pdf?src-supplier=Digikey; ComponentLink7URL: https://datasheet.ciiva.com/1855/sn74lvc2g74-1855062.pdf?src-supplier=Digikey; ComponentLink7Description: https://datasheet.ciiva.com/1855/sn74lvc2g74-1855062.pdf?src-supplier=Digikey; ComponentLink8URL: https://datasheet.ciiva.com/8055/1849776-8055525.pdf?src-supplier=Element14; ComponentLink8Description: https://datasheet.ciiva.com/8055/1849776-8055525.pdf?src-supplier=Element14; ComponentLink9URL: https://datasheet.ciiva.com/48703/001074282-da-01-en-ic-d-type-pos-t-sn74lvc2g74dcur-us-8-tid-48703655.pdf?src-supplier=Conrad; ComponentLink9Description: https://datasheet.ciiva.com/48703/001074282-da-01-en-ic-d-type-pos-t-sn74lvc2g74dcur-us-8-tid-48703655.pdf?src-supplier=Conrad; Supplier 1: Mouser; Supplier Part Number 1: 595-SN74LVC2G74DCUR
footprint VSSOP8
pins: 1 CLK (in), 2 D (in), 3 ~{Q} (out), 4 GND, 5 Q (out), 6 ~{CLR}, 7 ~{PRE} (in), 8 VCC